# Altium footprint library IC_MDBT50Q-1M_SMD.PcbLib: 1 footprints
Each footprint in its own frame and in the unit in brackets; x right, y up, seen from the top. Pads: shape width x height; smd on the part's side, far side on the other; paste and mask are expansions set on the pad; w line width, h text height; cw(c..) or ccw(c..) is an arc to the next point about the centre after c.
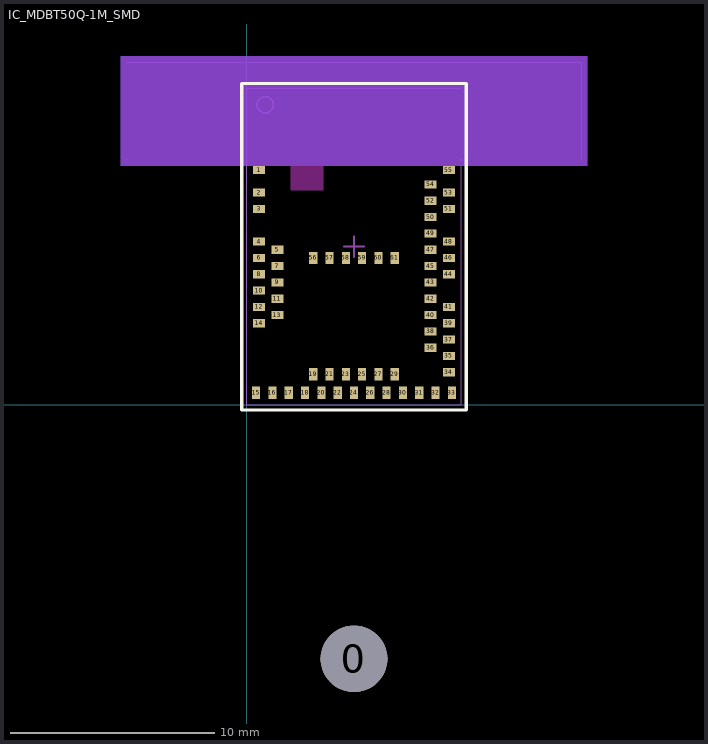
[diagram p0: the footprint, top view; thin cyan lines are the x and y axes]

## IC_MDBT50Q-1M_SMD [mm] "RAYTAC nRF52840 Chip Antenna"
pads (62):
  round 3.264 hole 3.264 unplated: 0(5.25,-12.44)
  rect 0.6x0.4 smd mask+0.05: 1(0.6,11.5) 2(0.6,10.4) 3(0.6,9.6) 4(0.6,8) 5(1.5,7.6) 6(0.6,7.2) 7(1.5,6.8) 8(0.6,6.4) 9(1.5,6) 10(0.6,5.6) 11(1.5,5.2) 12(0.6,4.8) 13(1.5,4.4) 14(0.6,4) 34(9.9,1.6) 35(9.9,2.4) 36(9,2.8) 37(9.9,3.2) 38(9,3.6) 39(9.9,4) 40(9,4.4) 41(9.9,4.8) 42(9,5.2) 43(9,6) 44(9.9,6.4) 45(9,6.8) 46(9.9,7.2) 47(9,7.6) 48(9.9,8) 49(9,8.4) 50(9,9.2) 51(9.9,9.6) 52(9,10) 53(9.9,10.4) 54(9,10.8) 55(9.9,11.5)
  rect 0.4x0.6 smd mask+0.05: 15(0.45,0.6) 16(1.25,0.6) 17(2.05,0.6) 18(2.85,0.6) 19(3.25,1.5) 20(3.65,0.6) 21(4.05,1.5) 22(4.45,0.6) 23(4.85,1.5) 24(5.25,0.6) 25(5.65,1.5) 26(6.05,0.6) 27(6.45,1.5) 28(6.85,0.6) 29(7.25,1.5) 30(7.65,0.6) 31(8.45,0.6) 32(9.25,0.6) 33(10.05,0.6) 56(3.25,7.2) 57(4.05,7.2) 58(4.85,7.2) 59(5.65,7.2) 60(6.45,7.2) 61(7.25,7.2)
Top Layer keep-out:
  rectangle: 2.15,10.5 3.75,11.7
  rectangle: -6.2,11.7 16.7,17.1
Bottom Layer keep-out:
  rectangle: -6.2,11.7 16.7,17.1
Top Overlay:
  lines w0.15: -0.25,-0.25 10.75,-0.25 10.75,15.75 -0.25,15.75 -0.25,-0.25
Mechanical 1:
  lines w0.05: -5.894,12.006 16.394,12.006 16.394,16.794 -5.894,16.794 -5.894,12.006
  text "No Copper Region" at -5.799,13.595 h1.27
Top Assembly:
  circle w0.1: c0.9,14.7 r0.4
  lines w0.05: 0,0.003 10.5,0.003 10.5,15.5 0,15.5 0,0.003
  text ".Designator" at 0.202,5.067 h1
Top Courtyard:
  lines w0.1: 4.75,7.75 5.75,7.75 ; 5.25,7.25 5.25,8.25 ; -0.25,-0.25 10.75,-0.25 10.75,15.75 -0.25,15.75 -0.25,-0.25
3D body "MDBT50Q_3D.step": height 2.2, standoff 0, extent 0,0.003 10.5,15.503